# Altium footprint library PAL1.PcbLib: 132 footprints (part 9 of 9)
Each footprint in its own frame and in the unit in brackets; x right, y up, seen from the top. Pads: shape width x height; smd on the part's side, far side on the other; paste and mask are expansions set on the pad; w line width, h text height; cw(c..) or ccw(c..) is an arc to the next point about the centre after c.
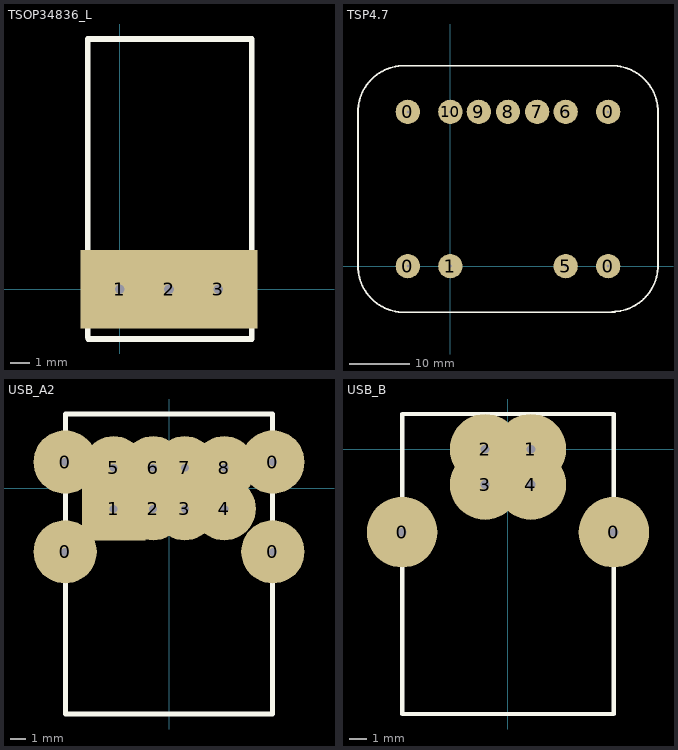
[diagram p8: the footprints below, top view; thin cyan lines are the x and y axes]

## TSOP34836_L [mm]
pads (3):
  rect 4x4 on Top hole 0.5: 1(0,0) 2(2.5,0) 3(5,0)
Top Overlay:
  lines w0.3: -1.625,-2.45 -1.625,12.7 6.7,12.7 6.7,-2.525 -1.6,-2.525

## TSP4.7 [mm]
pads (11):
  round 4 hole 0.5: 0(-6.999,0.009) 0(-6.999,25.409) 0(26.001,0.009) 0(26.001,25.409) 1(0.001,0.009) 5(19.001,0.009) 6(19.001,25.409) 7(14.301,25.409) 8(9.501,25.409) 9(4.701,25.409) 10(0.001,25.409)
Top Overlay:
  lines w0.3: 26.601,-7.491 ccw(c26.601,0.109) 34.201,0.109 ; 27.101,-7.591 -7.599,-7.591 cw(c-7.599,0.009) -15.199,0.009 -15.199,25.409 cw(c-7.599,25.409) -7.599,33.009 26.601,33.009 cw(c26.601,25.409) 34.201,25.409 34.201,0.009

## USB_A2 [mm]
pads (12):
  round 4 hole 0.5: 0(-6.57,-4.02) 0(-6.57,1.66) 0(6.57,-4.02) 0(6.57,1.66) 2(-1,-1.3) 3(1,-1.3) 4(3.5,-1.3) 5(-3.5,1.3) 6(-1,1.3) 7(1,1.3) 8(3.5,1.3)
  rect 4x4 hole 0.5: 1(-3.5,-1.3)
Top Overlay:
  lines w0.3: -6.55,-14.28 6.55,-14.28 6.55,4.7 -6.55,4.7 -6.55,-14.28

## USB_B [mm]
pads (6):
  round 4 hole 0.5: 0(-5.987,-4.689) 0(6.013,-4.689) 1(1.313,0.011) 2(-1.287,0.011) 3(-1.287,-1.989) 4(1.313,-1.989)
Top Overlay:
  lines w0.254: -5.987,-14.989 -5.987,0.011 -5.987,2.011 6.013,2.011 6.013,-14.989 -5.987,-14.989